# Altium footprint library PCB_Other.PcbLib: 29 footprints (part 2 of 2)
Each footprint in its own frame and in the unit in brackets; x right, y up, seen from the top. Pads: shape width x height; smd on the part's side, far side on the other; paste and mask are expansions set on the pad; w line width, h text height; cw(c..) or ccw(c..) is an arc to the next point about the centre after c.
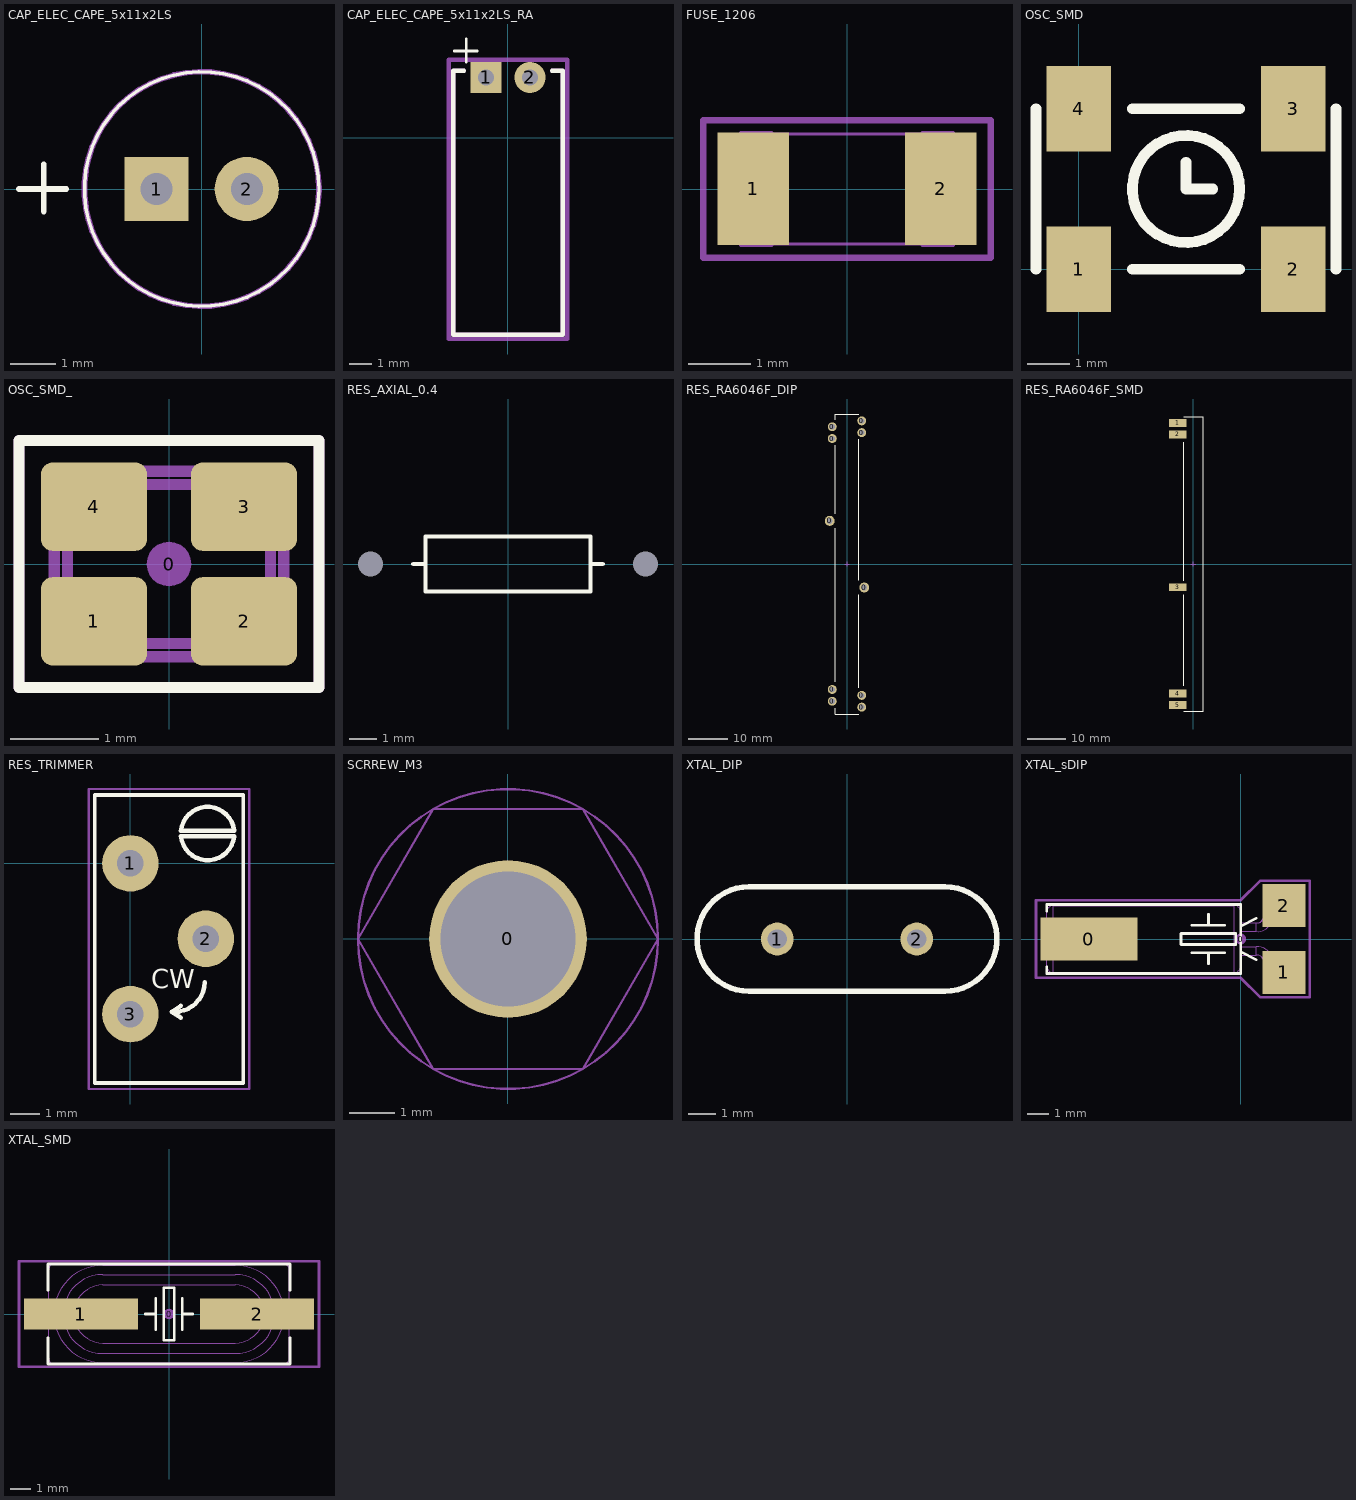
[diagram p1: the footprints below, top view; thin cyan lines are the x and y axes]

## CAP_ELEC_CAPE_5x11x2LS [mil] "Capacitor, electrolytic, radial can"
height 433.07
pads (2):
  rect 56x56 hole 28: 1(-39.37,0)
  round 56 hole 28: 2(39.37,0)
Top Overlay:
  circle w3: c0,0 r102.36
  lines w5: -159.45,0 -118.11,0 ; -137.8,-19.68 -137.8,21.65
Mechanical 13:
  circle w5: c0,0 r102.36
3D body: height 433.07, standoff -86.61, extent -98.42,-98.42 98.43,98.43

## CAP_ELEC_CAPE_5x11x2LS_RA [mil] "Capacitor, electrolytic, radial can, laid over"
height 196.85
pads (2):
  rect 56x56 hole 28: 1(-39.37,108.27)
  round 56 hole 28: 2(39.37,108.27)
Top Overlay:
  lines w5: -96.46,155.51 -55.12,155.51 ; -74.8,135.83 -74.8,177.17
  lines w7.87: -78.74,120.08 -98.43,120.08 -98.43,-352.36 0,-352.36 98.43,-352.36 98.43,120.08 78.74,120.08
Mechanical 13:
  lines w7.87: -78.74,120.08 -98.43,120.08 -98.43,-352.36 0,-352.36 98.43,-352.36 98.43,120.08 78.74,120.08
Mechanical 14:
  lines w7.87: -106.3,-360.24 106.3,-360.24 106.3,139.76 -106.3,139.76 -106.3,-360.24
3D body: height 200.79, standoff -86.61, extent -98.42,-352.24 98.43,118.12

## FUSE_1206 [mm] "Chip Capacitor, Body 3.2x1.6mm, 1206, IPC Medium Density"
height 1.6
pads (2):
  rect 1.15x1.8 smd: 1(-1.5,0) 2(1.5,0)
Mechanical 13:
  lines w0.05: -1.2,-0.88 1.2,-0.88 ; -1.2,0.88 1.2,0.88 ; -1.7,-0.9 -1.2,-0.9 -1.2,0.9 -1.7,0.9 -1.7,-0.9 ; 1.2,-0.9 1.7,-0.9 1.7,0.9 1.2,0.9 1.2,-0.9
Mechanical 14:
  lines w0.1: -2.3,-1.1 -2.3,1.1 2.3,1.1 2.3,-1.1 -2.3,-1.1
3D body: height 1.74, standoff -0.01, extent -1.7,-0.9 1.7,0.9

## OSC_SMD [mil]
pads (4):
  rect 60x80 smd: 1(0,0) 2(200,0) 3(200,150) 4(0,150)
Top Overlay:
  circle w10: c100,75 r50
  lines w10: -40,0 -40,150 ; 50,0 150,0 ; 50,150 150,150 ; 100,100 100,75 125,75 ; 240,0 240,150
3D body: height 73.62, standoff 10.63, extent -37.5,-23.42 238.09,173.43

## OSC_SMD_ [mm] "SMD Crystal 4-lead leadless package"
height 0.55
pads (5):
  round 0.508 on Mech14: 0(0,0)
  rrect25% 1.2x1 smd: 1(-0.85,-0.65) 2(0.85,-0.65) 3(0.85,0.65) 4(-0.85,0.65)
Top Overlay:
  lines w0.127: -1.7,-1.4 1.7,-1.4 1.7,1.4 -1.7,1.4 -1.7,-1.4
Top Solder:
  rectangle: -1.5,-0.4 1.5,0.4
Mechanical 13:
  lines w0.127: -1.3,-0.87 cw(c-1.3,-1.05) -1.12,-1.05 1.12,-1.05 cw(c1.3,-1.05) 1.3,-0.87 1.3,0.87 cw(c1.3,1.05) 1.12,1.05 -1.12,1.05 cw(c-1.3,1.05) -1.3,0.87 -1.3,-0.87 ; -1.15,-0.75 ccw(c-1,-0.75) -1,-0.9 1,-0.9 ccw(c1,-0.75) 1.15,-0.75 1.15,0.75 ccw(c1,0.75) 1,0.9 -1,0.9 ccw(c-1,0.75) -1.15,0.75 -1.15,-0.75
Mechanical 14:
  lines w0.127: -1.7,-1.4 -1.7,1.4 1.7,1.4 1.7,-1.4 -1.7,-1.4
3D body: height 0.55, standoff 0, extent -1.3,-1.05 1.3,1.05

## RES_AXIAL_0.4 [mil]
height 80
pads (2):
  round 0 / inner round 0 / far side round 100 hole 36 unplated: 1(-200,0) 2(200,0)
Top Overlay:
  lines w6: -137.8,0 -120,0 ; 120,0 137.8,0 ; -120,-40 120,-40 120,40 -120,40 -120,-40
3D body: height 102.23, standoff -100, extent -211.81,-50.27 211.81,50.27

## RES_RA6046F_DIP [mm]
pads (10):
  round 2.54 hole 1.5: 0(-4.4,11) 0(4.4,-6)
  round 2.286 hole 1.3: 0(-3.75,-35) 0(-3.75,-32) 0(-3.75,32) 0(-3.75,35) 0(3.75,-36.5) 0(3.75,-33.5) 0(3.75,33.5) 0(3.75,36.5)
Top Overlay:
  lines w0.254: -3.048,-36.754 -3.048,-38.252 3.048,-38.252 ; -3.048,-29.972 -3.048,9.119 ; -3.048,12.878 -3.048,30.251 ; -3.048,36.754 -3.048,38.252 3.048,38.252 ; 3.048,-31.496 3.048,-7.899 ; 3.048,-4.115 3.048,31.75
Mechanical 13:
  lines w0.051: -0.635,0 0,0 ; 0,-0.635 0,0 ; 0,0.635 0,0 ; 0.635,0 0,0

## RES_RA6046F_SMD [mil]
pads (5):
  rect 180x80 smd: 1(-160,1437.01) 2(-160,1318.9) 3(-160,-236.22) 4(-160,-1318.9) 5(-160,-1437.01)
Top Overlay:
  lines w10: -100,-1501 100,-1501 100,1501 -100,1501 ; -100,-1240 -100,-315 ; -100,-170 -100,1240
Mechanical 13:
  lines w2: -25,0 0,0 ; 0,-25 0,0 ; 0,25 0,0 ; 25,0 0,0

## RES_TRIMMER [mil] "TRIMMER, MURATA, PV36Y"
height 421.26
pads (3):
  round 75 hole 35: 1(0,0) 2(100,-100) 3(0,-200)
Top Overlay:
  lines w5: -47.24,-291.34 -47.24,90.55 149.61,90.55 149.61,-291.34 -47.24,-291.34
  lines w6: 58.86,-197.05 ccw(c58.86,-157.48) 98.43,-157.48 ; 66.93,-204.72 55.12,-197.05 66.93,-188.98 ; 67.07,35.81 137.65,35.81 ; 67.06,43.31 137.66,43.31 ; 67.12,43.3 cw(c102.36,39.55) 137.6,43.3 ; 67.13,35.81 ccw(c102.36,39.55) 137.59,35.81
  text "CW" at 27.56,-165.35 h25
Mechanical 13:
  lines w3: -47.24,-291.34 -47.24,90.55 149.61,90.55 149.61,-291.34 -47.24,-291.34
Mechanical 14:
  lines w3: -30,0 30,0 ; 0,-30 0,30 ; -55.12,-299.34 157.48,-299.34 157.48,98.66 -55.12,98.66 -55.12,-299.34
3D body: height 444.88, standoff -236.22, extent -47.24,-287.4 149.61,90.55

## SCRREW_M3 [mm]
height 10.058
pads (1):
  round 3.5 hole 3 mask+0: 0(0,0)
Mechanical 13:
  circle w0.051: c0,0 r3.327
  lines w0.051: -3.327,0 -1.663,2.881 1.663,2.881 3.327,0 1.663,-2.881 -1.663,-2.881 -3.327,0

## XTAL_DIP [mm] "Radial Cap, Thru-Hole; 2 Leads; 0.2 in Pin Spacing"
pads (2):
  round 1.2 hole 0.7: 1(-2.54,0) 2(2.54,0)
Top Overlay:
  lines w0.203: -3.556,-1.905 cw(c-3.556,0) -3.556,1.905 3.556,1.905 cw(c3.556,0) 3.556,-1.905 -3.556,-1.905
3D body: height 3.52, standoff -3.98, extent -5.7,-2.286 5.65,2.364

## XTAL_sDIP [mm] "SMD Crystal CMR309T package"
height 3.1
pads (4):
  rect 4.5x2 smd: 0(-7.05,0)
  round 0.508 on Mech14: 0(0,0)
  rect 2x2 smd: 1(2,-1.55) 2(2,1.55)
Top Overlay:
  lines w0.127: -9,-1.3 -9,-1.6 0,-1.6 0,-0.6 ; -9,1.3 -9,1.6 0,1.6 0,0.6 ; -2.262,-0.635 -0.738,-0.635 ; -2.262,0.635 -0.738,0.635 ; -1.5,-1.143 -1.5,-0.635 ; -1.5,0.635 -1.5,1.143 ; 0.72,-0.96 0,-0.6 ; 0.72,0.96 0,0.6 ; 0,-0.6 0,0.6 ; -2.77,-0.254 -0.23,-0.254 -0.23,0.254 -2.77,0.254 -2.77,-0.254
Mechanical 13:
  lines w0.05: 0,-0.75 0.71,-0.75 ; 0,-0.35 0.71,-0.35 ; 0,0.35 0.71,0.35 ; 0,0.75 0.71,0.75 ; 0.931,-0.79 0.937,-0.798 0.965,-0.823 0.999,-0.84 1.037,-0.85 1.077,-0.851 1.118,-0.843 1.158,-0.828 1.195,-0.805 1.226,-0.776 1.252,-0.741 1.27,-0.704 1.279,-0.664 1.28,-0.625 1.271,-0.588 1.255,-0.555 1.25,-0.548 ; 0.931,0.79 0.937,0.798 0.965,0.823 0.999,0.84 1.037,0.85 1.077,0.851 1.118,0.843 1.158,0.828 1.195,0.805 1.226,0.776 1.252,0.741 1.27,0.704 1.279,0.664 1.28,0.625 1.271,0.588 1.255,0.555 1.25,0.548 ; -8.7,-1.55 cw(c-8.7,-1.25) -9,-1.25 -9,1.25 cw(c-8.7,1.25) -8.7,1.55 ; -8.7,-1.55 -8.7,1.55 ; -8.7,-1.55 -0.3,-1.55 ; -8.7,1.55 -0.3,1.55 ; -0.3,-1.55 ccw(c-0.3,-1.25) 0,-1.25 0,1.25 ccw(c-0.3,1.25) -0.3,1.55 ; -0.3,-1.55 -0.3,1.55 ; 0.71,-0.75 cw(c0.741,-1.171) 0.936,-0.796 1.229,-1.183 ; 0.71,-0.75 0.71,-0.35 ; 0.71,-0.35 cw(c0.757,-1.055) 1.25,-0.548 ; 0.71,0.35 ccw(c0.775,1.007) 1.25,0.548 ; 0.71,0.35 0.71,0.75 ; 0.71,0.75 0.73,0.75 0.773,0.753 0.814,0.758 0.851,0.765 0.881,0.773 0.906,0.781 0.923,0.789 0.933,0.794 0.937,0.797 ; 0.937,0.797 1.229,1.183 ; 0.937,0.797 0.937,0.797 ; 1.229,-1.183 ccw(c2.616,-0.029) 1.491,-1.439 ; 1.229,-1.183 1.236,-1.191 1.263,-1.216 1.297,-1.234 1.335,-1.243 1.376,-1.244 1.417,-1.237 1.456,-1.221 1.493,-1.198 1.525,-1.169 1.55,-1.135 1.568,-1.097 1.577,-1.058 1.578,-1.019 1.569,-0.982 1.553,-0.948 1.548,-0.942 ; 1.229,1.183 cw(c2.589,0.057) 1.491,1.439 ; 1.229,1.183 1.236,1.191 1.263,1.216 1.297,1.234 1.335,1.243 1.376,1.244 1.417,1.237 1.456,1.221 1.493,1.198 1.525,1.169 1.55,1.135 1.568,1.097 1.577,1.058 1.578,1.019 1.569,0.982 1.553,0.948 1.548,0.942 ; 1.25,-0.548 1.548,-0.942 ; 1.25,0.548 1.548,0.942 ; 1.491,-1.439 ccw(c0.753,-0.568) 1.746,-1.132 ; 1.491,-1.439 2.472,-2.254 ccw(c1.735,-1.382) 2.728,-1.946 1.746,-1.132 ; 1.491,1.439 cw(c0.753,0.568) 1.746,1.132 ; 1.491,1.439 2.472,2.254 cw(c1.735,1.382) 2.728,1.946 1.746,1.132 ; 1.548,-0.942 ccw(c2.638,-0.003) 1.746,-1.132 ; 1.548,0.942 cw(c2.604,0.039) 1.746,1.132
Mechanical 14:
  lines w0.127: -9.5,-1.8 0,-1.8 0.9,-2.7 3.2,-2.7 3.2,2.7 0.9,2.7 0,1.8 -9.5,1.8 -9.5,-1.8
3D body: height 3.07, standoff -0.01, extent -9,-2.254 2.728,2.254

## XTAL_SMD [mm] "SMD Crystal HC49/US-SM package"
height 4.3
pads (3):
  round 0.508 on Mech14: 0(0,0)
  rect 5.5x1.5 smd: 1(-4.25,0) 2(4.25,0)
Top Overlay:
  lines w0.127: -5.842,-1.143 -5.842,-2.413 5.842,-2.413 5.842,-1.143 ; -5.842,1.143 -5.842,2.413 5.842,2.413 5.842,1.143 ; -1.143,0 -0.635,0 ; -0.635,-0.762 -0.635,0.762 ; 0.635,-0.762 0.635,0.762 ; 0.635,0 1.143,0 ; -0.254,-1.27 0.254,-1.27 0.254,1.27 -0.254,1.27 -0.254,-1.27
Mechanical 13:
  lines w0.05: -5.8,-0.45 -6.4,-0.45 -6.4,0.45 -5.8,0.45 ; 5.8,-0.45 6.4,-0.45 6.4,0.45 5.8,0.45 ; -5.8,-2.165 ccw(c-5.55,-2.165) -5.55,-2.415 5.55,-2.415 ccw(c5.55,-2.165) 5.8,-2.165 5.8,2.165 ccw(c5.55,2.165) 5.55,2.415 -5.55,2.415 ccw(c-5.55,2.165) -5.8,2.165 -5.8,-2.165 ; -3.2,-2.35 cw(c-3.2,0) -3.2,2.35 3.2,2.35 cw(c3.2,0) 3.2,-2.35 -3.2,-2.35 ; -3.2,-1.9 cw(c-3.2,0) -3.2,1.9 3.2,1.9 cw(c3.2,0) 3.2,-1.9 -3.2,-1.9 ; -3.2,-1.4 cw(c-3.2,0) -3.2,1.4 3.2,1.4 cw(c3.2,0) 3.2,-1.4 -3.2,-1.4
Mechanical 14:
  lines w0.127: -7.239,-2.54 7.239,-2.54 7.239,2.54 -7.239,2.54 -7.239,-2.54
3D body: height 4.29, standoff -0.01, extent -6.4,-2.415 6.4,2.415